# EAGLE library part MIC47050 (library Bulkhead Flight Computer)
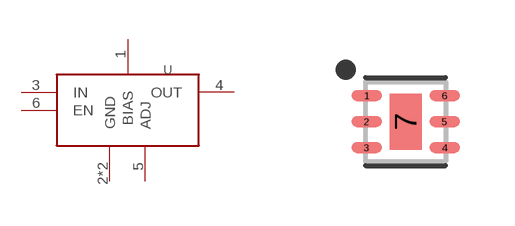
[diagram p13: symbol with the pads of SON65P200X200X90-7T80X140N; footprint SON65P200X200X90-7T80X140N]

Designator prefix U

## MIC47050  [SON65P200X200X90-7T80X140N]
1  BIAS  pwr
2  GND  pas
3  IN  in
4  OUT  out
5  ADJ  pas
6  EN  in
7  GND  pas

## Footprint SON65P200X200X90-7T80X140N (pad centres in mm)
6-SON (DFN), 0.65 mm pitch, 2.00 X 2.00 X 0.90 mm body, 1.40 X 0.80 mm thermal pad 6-pin SON (DFN) package with 0.65 mm pitch with body size 2.00 X 2.00 X 0.90 mm and thermal pad size 1.40 X 0.80 mm
smd 0.761 x 0.27: 1 -0.976,0.65; 2 -0.976,0; 3 -0.976,-0.65; 4 0.976,-0.65; 5 0.976,0; 6 0.976,0.65
smd 0.8 x 1.4: 7 0,0